# Altium footprint library 1.贴片电阻、电容、电感封装.PcbLib: 33 footprints (part 1 of 3)
Each footprint in its own frame and in the unit in brackets; x right, y up, seen from the top. Pads: shape width x height; smd on the part's side, far side on the other; paste and mask are expansions set on the pad; w line width, h text height; cw(c..) or ccw(c..) is an arc to the next point about the centre after c.
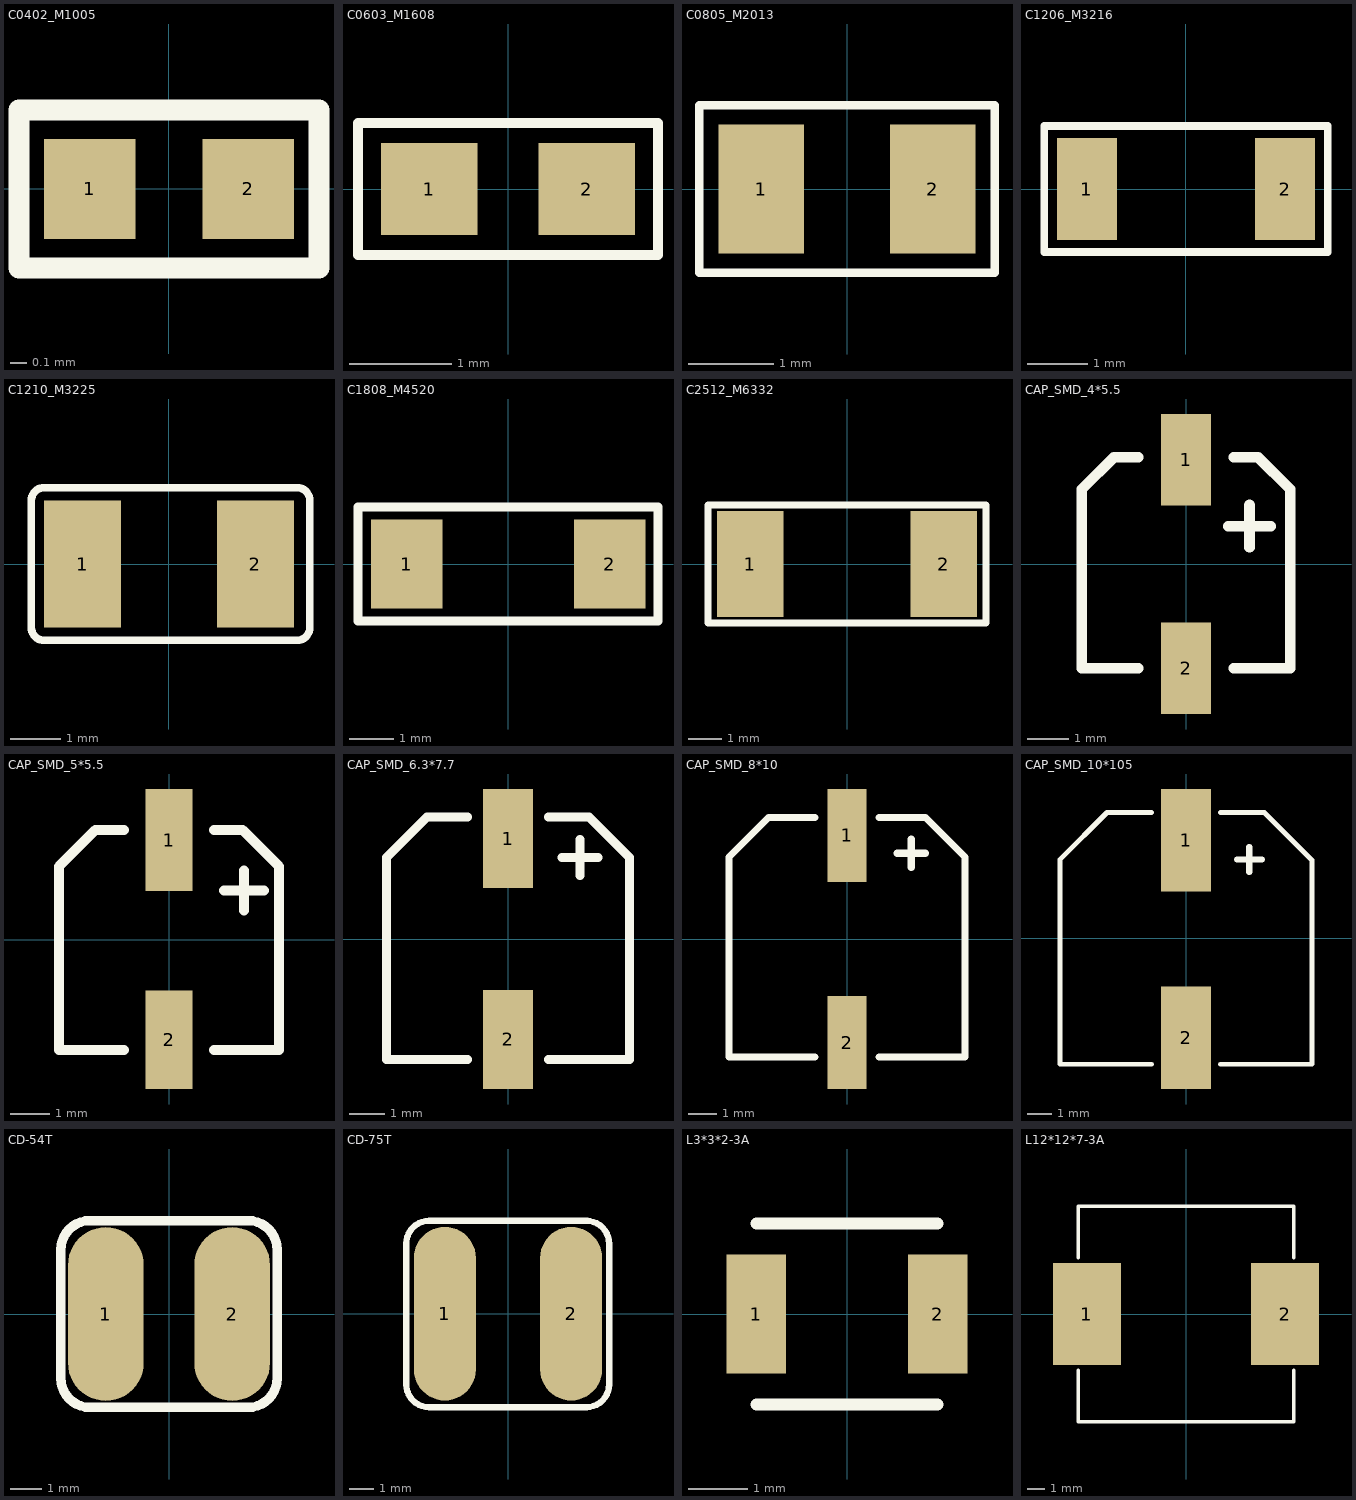
[diagram p0: the footprints below, top view; thin cyan lines are the x and y axes]

## C0402_M1005 [mil]
pads (2):
  rect 22x24 smd: 1(-19,0) 2(19,0)
Top Overlay:
  lines w5: -36,-19 36,-19 36,19 -36,19 -36,-19

## C0603_M1608 [mm] "Chip Capacitor, 2-Leads, Body 1.6x0.8mm, IPC Medium Density"
height 0.55
pads (2):
  rect 0.95x0.9 smd: 1(-0.775,0) 2(0.775,0)
Top Overlay:
  lines w0.1: -1.475,-0.65 1.475,-0.65 1.475,0.65 -1.475,0.65 -1.475,-0.65

## C0805_M2013 [mm] "Chip Capacitor, 2-Leads, Body 2.0x1.3mm, IPC Medium Density"
height 0.9
pads (2):
  rect 1x1.5 smd: 1(-1,0) 2(1,0)
Top Overlay:
  lines w0.1: -1.725,-0.975 1.725,-0.975 1.725,0.975 -1.725,0.975 -1.725,-0.975

## C1206_M3216 [mm]
pads (2):
  rect 1x1.7 smd: 1(-1.65,0) 2(1.65,0)
Top Overlay:
  lines w0.127: -2.362,-1.051 -2.362,1.051 1.35,1.051 2.362,1.051 2.362,-1.051 1.35,-1.051 -2.362,-1.051

## C1210_M3225 [mil]
pads (2):
  rect 60x99.37 smd: 1(-67.5,0) 2(67.5,0)
Top Overlay:
  lines w5.91: -47.5,59.69 99.98,59.69 ; 98.88,-59.69 -47.5,-59.69 99.98,-59.69
  lines w5.98: -107.5,-49.98 -107.5,49.69
  lines w6: -107.5,-49.69 ccw(c-97.5,-49.69) -97.5,-59.69 -47.5,-59.69 ; -107.5,49.69 cw(c-97.5,49.69) -97.5,59.69 -47.5,59.69 ; 99.98,-59.69 ccw(c99.98,-49.69) 109.98,-49.69 ; 99.98,59.69 cw(c99.98,49.69) 109.98,49.69 109.98,-48.58

## C1808_M4520 [mm]
pads (2):
  rect 1.6x2 smd: 1(-2.266,0) 2(2.266,0)
Top Overlay:
  lines w0.2: -3.358,-1.27 -3.358,1.27 3.347,1.27 3.347,-1.27 -3.358,-1.27

## C2512_M6332 [mm]
pads (2):
  rect 2x3.2 smd: 1(-2.921,0) 2(2.921,0)
Top Overlay:
  lines w0.2: -4.191,-1.778 4.191,-1.778 4.191,1.778 -4.191,1.778 -4.191,-1.778

## CAP_SMD_4*5.5 [mm]
pads (2):
  rrect0% 1.2x2.2 smd: 1(0,2.5) 2(0,-2.5)
Top Overlay:
  lines w0.254: -1.143,-2.5 -2.5,-2.5 -2.5,1.793 -1.727,2.565 -1.143,2.565 ; 1.016,0.908 2.032,0.908 ; 1.143,-2.5 2.5,-2.5 ; 1.143,2.565 1.727,2.565 2.5,1.793 2.5,-2.489 ; 1.524,0.4 1.524,1.416

## CAP_SMD_5*5.5 [mm]
pads (2):
  rrect0% 1.2x2.6 smd: 1(0,2.54)
  rrect0% 1.2x2.5 smd: 2(0,-2.54)
Top Overlay:
  lines w0.254: -1.143,-2.8 -2.8,-2.8 -2.8,1.874 -1.874,2.8 -1.143,2.8 ; 1.143,-2.8 2.8,-2.8 2.8,1.874 1.874,2.8 1.143,2.8 ; 1.397,1.264 2.413,1.264 ; 1.905,0.756 1.905,1.772

## CAP_SMD_6.3*7.7 [mm]
pads (2):
  rrect0% 1.4x2.8 smd: 1(0,2.838) 2(0,-2.838)
Top Overlay:
  lines w0.254: -1.143,-3.41 -3.429,-3.41 -3.429,2.305 -2.286,3.448 -1.143,3.448 ; 1.143,-3.41 3.429,-3.41 3.429,2.305 2.286,3.448 1.143,3.448 ; 1.524,2.305 2.54,2.305 ; 2.032,1.797 2.032,2.813

## CAP_SMD_8*10 [mil]
pads (2):
  rrect0% 55.12x130 smd: 1(0,145) 2(0,-145)
Top Overlay:
  lines w10: -45,-165 -165,-165 -165,115 -110,170 -45,170 ; 45,-165 165,-165 165,115 110,170 45,170 ; 70,120 110,120 ; 90,100 90,140

## CAP_SMD_10*105 [mm]
pads (2):
  rect 2.05x4.2 smd: 1(0,4.013) 2(0,-4.064)
Top Overlay:
  lines w0.2: -1.4,-5.15 -5.15,-5.15 -5.15,3.232 -3.232,5.15 -1.4,5.15 ; 1.4,-5.15 5.15,-5.15 5.15,3.207 3.207,5.15 1.4,5.15
  lines w0.254: 2.083,3.226 3.099,3.226 ; 2.591,2.718 2.591,3.734

## CD-54T [mm]
pads (2):
  oval 2.4x5.5 smd: 1(-2,0) 2(2,0)
Top Overlay:
  lines w0.3: -3.429,-2.032 ccw(c-2.504,-2.032) -2.504,-2.957 2.504,-2.957 ccw(c2.504,-2.032) 3.429,-2.032 3.429,2.032 ccw(c2.504,2.032) 2.504,2.957 -2.504,2.957 ccw(c-2.504,2.032) -3.429,2.032 -3.429,-2.032

## CD-75T [mm]
pads (2):
  oval 2.5x7 smd: 1(-2.546,0) 2(2.546,0)
Top Overlay:
  lines w0.254: -4.102,-2.896 -4.102,2.87 ; -4.102,-2.845 ccw(c-3.177,-2.845) -3.177,-3.77 3.188,-3.77 ; -4.102,2.819 cw(c-3.177,2.819) -3.177,3.745 3.202,3.745 ; 3.151,-3.77 ccw(c3.151,-2.845) 4.077,-2.845 ; 3.151,3.745 cw(c3.151,2.819) 4.077,2.819 4.077,-2.896

## L3*3*2-3A [mm]
pads (2):
  rect 1x2 smd: 1(-1.524,0) 2(1.524,0)
Top Overlay:
  lines w0.2: -1.524,-1.524 1.524,-1.524 ; -1.524,1.524 1.524,1.524

## L12*12*7-3A [mm]
pads (2):
  rect 4x6 smd: 1(-5.842,0) 2(5.842,0)
Top Overlay:
  lines w0.2: -6.35,-3.302 -6.35,-6.35 6.35,-6.35 6.35,-3.302 ; -6.35,3.302 -6.35,6.35 6.35,6.35 6.35,3.302